# Altium schematic symbol library SPIN.SchLib: 7 symbols
Pins are listed as number, name and electrical type; pins without a type are passive.

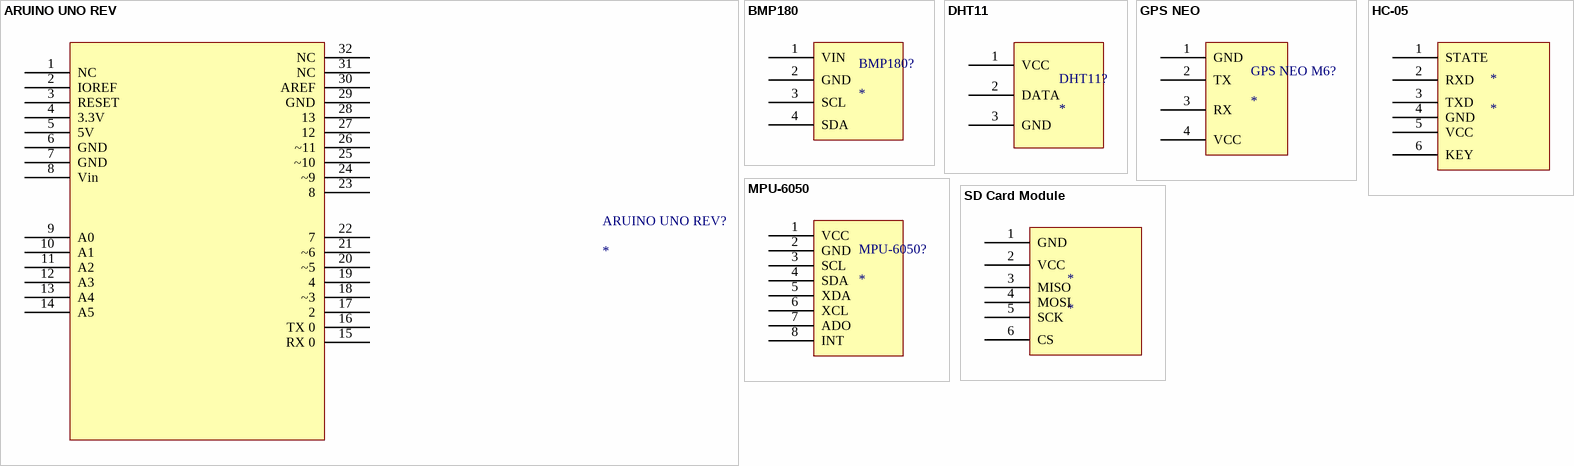
[diagram p0: symbols ARUINO UNO REV to SD Card Module]

## ARUINO UNO REV
designator ARUINO UNO REV?
Name: Arduino UNO
footprint Arduino UNO Rev
pins: 1 NC, 2 IOREF, 3 RESET, 4 3.3V, 5 5V, 6 GND, 7 GND, 8 Vin, 9 A0, 10 A1, 11 A2, 12 A3, 13 A4, 14 A5, 15 RX 0, 16 TX 0, 17 2, 18 ~3, 19 4, 20 ~5, 21 ~6, 22 7, 23 8, 24 ~9, 25 ~10, 26 ~11, 27 12, 28 13, 29 GND, 30 AREF, 31 NC, 32 NC

## BMP180
designator BMP180?
footprint BMP180 - duplicate
pins: 1 VIN, 2 GND, 3 SCL, 4 SDA

## DHT11
designator DHT11?
footprint DHT11 - duplicate
pins: 1 VCC, 2 DATA, 3 GND

## GPS NEO
designator GPS NEO M6?
footprint GPS NEO-6M - duplicate
pins: 1 GND, 2 TX, 3 RX, 4 VCC

## HC-05
designator *
footprint HC05
pins: 1 STATE, 2 RXD, 3 TXD, 4 GND, 5 VCC, 6 KEY

## MPU-6050
designator MPU-6050?
footprint MPU-6050 - duplicate
pins: 1 VCC, 2 GND, 3 SCL, 4 SDA, 5 XDA, 6 XCL, 7 ADO, 8 INT

## SD Card Module
designator *
footprint SD Card Module
pins: 1 GND, 2 VCC, 3 MISO, 4 MOSI, 5 SCK, 6 CS